# Altium footprint library ld29150dt33r.PcbLib: 3 footprints
Each footprint in its own frame and in the unit in brackets; x right, y up, seen from the top. Pads: shape width x height; smd on the part's side, far side on the other; paste and mask are expansions set on the pad; w line width, h text height; cw(c..) or ccw(c..) is an arc to the next point about the centre after c.
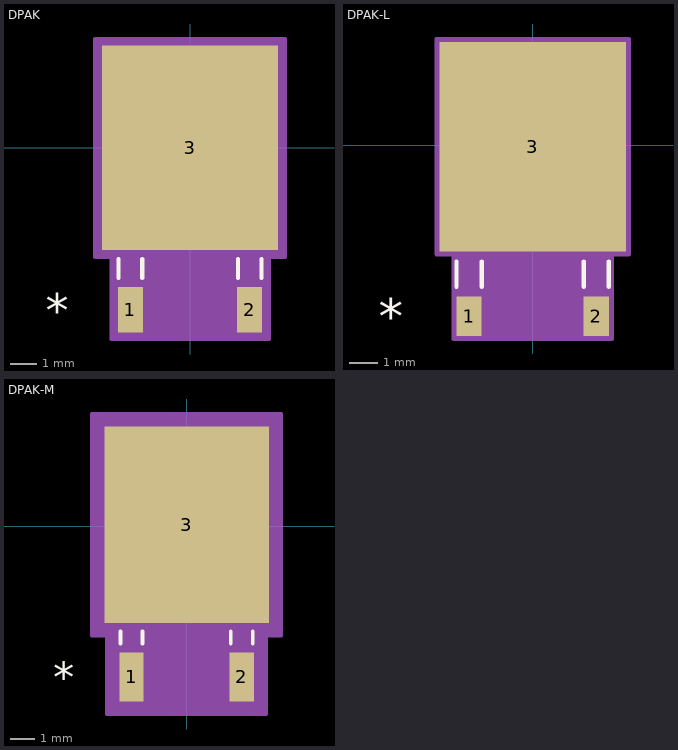
[diagram p0: the footprints below, top view; thin cyan lines are the x and y axes]

## DPAK [mil]
pads (3):
  rect 37x67 smd paste+0 mask+0: 1(-88.58,-240.5) 2(88.58,-240.5)
  rect 262x304 smd paste+0 mask+0: 3(0,0)
Top Overlay:
  lines w6: -106.08,-193 -106.08,-165.1 ; -71.08,-193 -71.08,-165.1 ; 71.08,-193 71.08,-165.1 ; 106.08,-193 106.08,-165.1
  text "*" at -214.67,-265.5 h50
Mechanical 13:
  lines w1: -130,-138 130,-138 130,138 -130,138 -130,-138 ; -106.08,-260 -106.08,-138 -71.08,-138 -71.08,-260 -106.08,-260 ; 71.08,-260 71.08,-138 106.08,-138 106.08,-260 71.08,-260
  text "*" at -101.08,-153 h50
Mechanical 15:
  region: -117.08,-162 -141,-162 -141,162 141,162 141,-162 117.08,-162 117.08,-284 -117.08,-284
  lines w6: -141,-162 -141,162 141,162 141,-162 117.08,-162 117.08,-284 -117.08,-284 -117.08,-162 -141,-162
3D body: height 10, standoff 0, extent 0,0 10,10

## DPAK-L [mil]
pads (3):
  rect 35x55 smd paste+0 mask+0: 1(-88.58,-238.5) 2(88.58,-238.5)
  rect 260x292 smd paste+0 mask+0: 3(0,-2)
Top Overlay:
  lines w6: -106.08,-197 -106.08,-162 ; -71.08,-197 -71.08,-162 ; 71.08,-197 71.08,-162 ; 106.08,-197 106.08,-162
  text "*" at -214.67,-263.5 h50
Mechanical 13:
  lines w1: -130,-138 130,-138 130,138 -130,138 -130,-138 ; -106.08,-260 -106.08,-138 -71.08,-138 -71.08,-260 -106.08,-260 ; 71.08,-260 71.08,-138 106.08,-138 106.08,-260 71.08,-260
  text "*" at -101.08,-153 h50
Mechanical 15:
  region: -110.08,-152 -134,-152 -134,148 134,148 134,-152 110.08,-152 110.08,-270 -110.08,-270
  lines w6: -134,-152 -134,148 134,148 134,-152 110.08,-152 110.08,-270 -110.08,-270 -110.08,-152 -134,-152
3D body: height 10, standoff 0, extent 0,0 10,10

## DPAK-M [mil]
pads (3):
  rect 39x79 smd paste+0 mask+0: 1(-88.58,-242.5) 2(88.58,-242.5)
  rect 264x316 smd paste+0 mask+0: 3(0,2)
Top Overlay:
  lines w6: -106.08,-189 -106.08,-169.1 ; -71.08,-189 -71.08,-169.1 ; 71.08,-189 71.08,-169.1 ; 106.08,-189 106.08,-169.1
  text "*" at -214.67,-267.5 h50
Mechanical 13:
  lines w1: -130,-138 130,-138 130,138 -130,138 -130,-138 ; -106.08,-260 -106.08,-138 -71.08,-138 -71.08,-260 -106.08,-260 ; 71.08,-260 71.08,-138 106.08,-138 106.08,-260 71.08,-260
  text "*" at -101.08,-153 h50
Mechanical 15:
  region: -128.08,-176 -152,-176 -152,180 152,180 152,-176 128.08,-176 128.08,-302 -128.08,-302
  lines w6: -152,-176 -152,180 152,180 152,-176 128.08,-176 128.08,-302 -128.08,-302 -128.08,-176 -152,-176
3D body: height 10, standoff 0, extent 0,0 10,10